# EAGLE library part TLC5940 (library niklas)
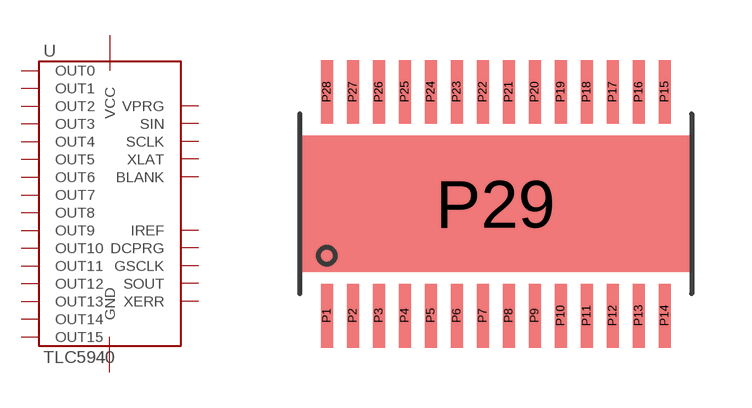
[diagram p0: symbol with the pads of PWP_28PIN; footprint PWP_28PIN]

Designator prefix -

## TLC5940  [PWP_28PIN]
P1  GND  pwr
P2  BLANK  in
P3  XLAT  in
P4  SCLK  in
P5  SIN  in
P6  VPRG  in
P7  OUT0  oc
P8  OUT1  oc
P9  OUT2  oc
P10  OUT3  oc
P11  OUT4  oc
P12  OUT5  oc
P13  OUT6  oc
P14  OUT7  oc
P15  OUT8  oc
P16  OUT9  oc
P17  OUT10  oc
P18  OUT11  oc
P19  OUT12  oc
P20  OUT13  oc
P21  OUT14  oc
P22  OUT15  oc
P23  XERR  oc
P24  SOUT  out
P25  GSCLK  in
P26  DCPRG  in
P27  IREF  pas
P28  VCC  pwr
P29  GND  pwr

## Footprint PWP_28PIN (pad centres in mm)
smd 0.3 x 1.6: P1 -4.225,-2.8; P2 -3.575,-2.8; P3 -2.925,-2.8; P4 -2.275,-2.8; P5 -1.625,-2.8; P6 -0.975,-2.8; P7 -0.325,-2.8; P8 0.325,-2.8; P9 0.975,-2.8; P10 1.625,-2.8; P11 2.275,-2.8; P12 2.925,-2.8; P13 3.575,-2.8; P14 4.225,-2.8; P15 4.225,2.8; P16 3.575,2.8; P17 2.925,2.8; P18 2.275,2.8; P19 1.625,2.8; P20 0.975,2.8; P21 0.325,2.8; P22 -0.325,2.8; P23 -0.975,2.8; P24 -1.625,2.8; P25 -2.275,2.8; P26 -2.925,2.8; P27 -3.575,2.8; P28 -4.225,2.8
smd 9.7 x 3.4: P29 0,0